# Altium schematic symbol library diode_tvs_2p_common_anode.SchLib: 1 symbol
Pins are listed as number, name and electrical type; pins without a type are passive.

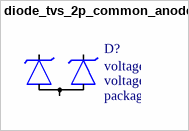
[diagram p0: symbol diode_tvs_2p_common_anode]

## diode_tvs_2p_common_anode
designator D?
component category: diode; ComponentLink1Description: datasheet; ComponentLink1URL: *; ComponentLink2Description: supplier link; ComponentLink2URL: *; component type: rectifier; supplier link: *; supplier currency: *; price,max: *; price,min: *; Quantity,max: *; Quantity,min: *; Operating Temparature,max: *; Operating Temparature,min: *; Supplier Part number: *; Supplier: *; Manufacturer Part number: *; Manufacturer: *; voltage break down: *; package: *; voltage stand off: *
footprint Diode_SOT-723_2P_COMMON_ANODE_type1
pins: A, C1, C2